# Altium footprint library PCB - LEADED - SOP - MICROCHIP MICREL SOP-8 M.PcbLib: 1 footprints
Each footprint in its own frame and in the unit in brackets; x right, y up, seen from the top. Pads: shape width x height; smd on the part's side, far side on the other; paste and mask are expansions set on the pad; w line width, h text height; cw(c..) or ccw(c..) is an arc to the next point about the centre after c.
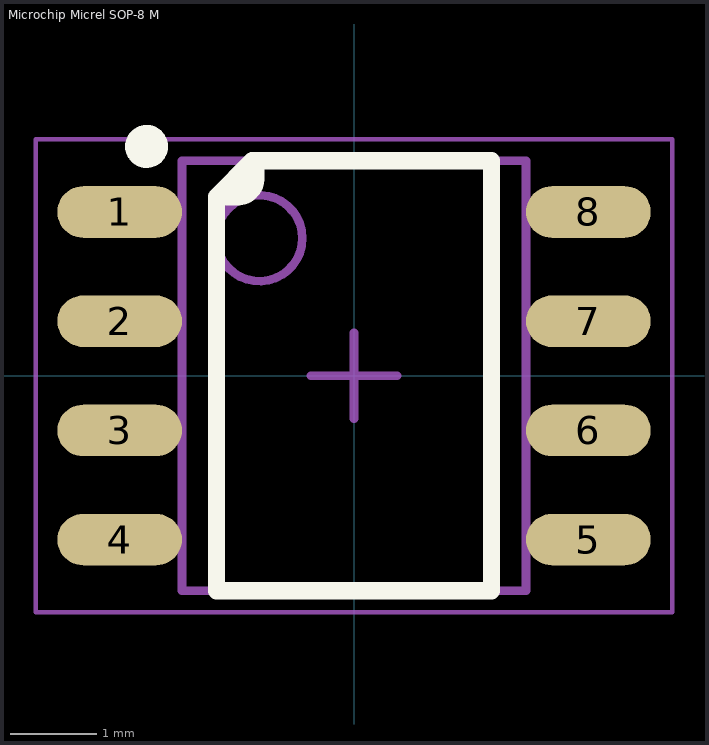
[diagram p0: the footprint, top view; thin cyan lines are the x and y axes]

## Microchip Micrel SOP-8 M [mm] "SOIC, 8-Leads, Body 4.90x3.90mm, Pitch 1.27mm, IPC Medium Density"
height 1.63
pads (8):
  oval 1.45x0.6 smd: 1(-2.725,1.905) 2(-2.725,0.635) 3(-2.725,-0.635) 4(-2.725,-1.905) 5(2.725,-1.905) 6(2.725,-0.635) 7(2.725,0.635) 8(2.725,1.905)
Top Overlay:
  circle w0.25: c-2.413,2.667 r0.125
  region: -1.183,2.46 -1.183,2.246 -1.346,2.083 -1.473,2.083
  lines w0.2: -1.6,2.083 -1.346,2.083 ccw(c-1.346,2.286) -1.143,2.286 -1.143,2.46 ccw(c-1.183,2.46) -1.183,2.5 ; -1.6,2.083 -1.6,-2.5 1.6,-2.5 1.6,2.5 -1.183,2.5 ; -1.6,2.083 -1.183,2.5
Mechanical 13:
  circle w0.1: c-1.1,1.6 r0.5
  lines w0.1: -2,-2.5 -2,2.5 2,2.5 2,-2.5 -2,-2.5
Mechanical 15:
  lines w0.05: -3.7,-2.75 -3.7,2.75 3.7,2.75 3.7,-2.75 -3.7,-2.75
  lines w0.1: -0.5,0 0.5,0 ; 0,-0.5 0,0.5
3D body "Microchip Micrel SOP-8 M.step": height 1.63, standoff 0, extent -2.997,-2.5 2.997,2.5